# Altium footprint library HEADER_B.PcbLib: 2 footprints
Each footprint in its own frame and in the unit in brackets; x right, y up, seen from the top. Pads: shape width x height; smd on the part's side, far side on the other; paste and mask are expansions set on the pad; w line width, h text height; cw(c..) or ccw(c..) is an arc to the next point about the centre after c.
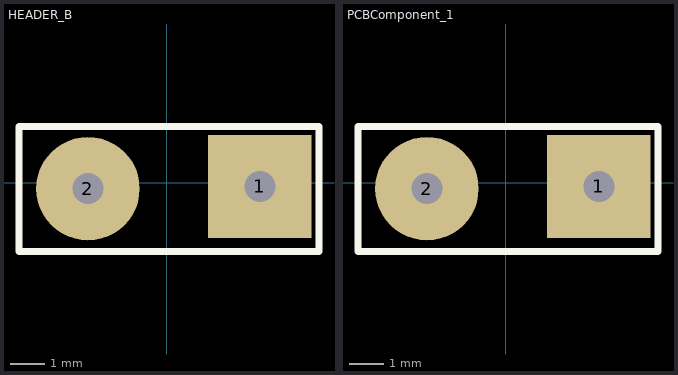
[diagram p0: the footprints below, top view; thin cyan lines are the x and y axes]

## HEADER_B [mm]
pads (2):
  rect 3x3 hole 0.9: 1(2.704,-0.109)
  round 3 hole 0.9: 2(-2.284,-0.173)
Top Overlay:
  lines w0.2: -4.284,-1.99 -4.284,1.627 4.416,1.627 4.416,-1.99 -4.284,-1.99

## PCBComponent_1 [mm]
pads (2):
  rect 3x3 hole 0.9: 1(2.704,-0.109)
  round 3 hole 0.9: 2(-2.284,-0.173)
Top Overlay:
  lines w0.2: -4.284,-1.99 -4.284,1.627 4.416,1.627 4.416,-1.99 -4.284,-1.99